# Altium schematic symbol library MX1508.SchLib: 1 symbol
Pins are listed as number, name and electrical type; pins without a type are passive.

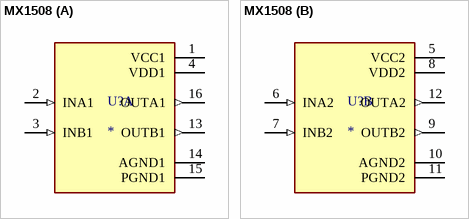
[diagram p0: symbol MX1508]

## MX1508
designator U?
MP: MX1508; MF: Sinotech Mixic Electronics Co., Ltd; Availability: Not in stock; Package: Package; Value: *; Check_prices: https://www.snapeda.com/parts/MX1508/Sinotech+Mixic+Electronics+Co.%252C+Ltd/view-part/?ref=eda; SnapEDA_Link: https://www.snapeda.com/parts/MX1508/Sinotech+Mixic+Electronics+Co.%252C+Ltd/view-part/?ref=snap; Price: None
footprint SOIC127P600X177-16N
part A pins: 1 VCC1 (power), 2 INA1 (in), 3 INB1 (in), 4 VDD1 (power), 13 OUTB1 (out), 14 AGND1 (power), 15 PGND1 (power), 16 OUTA1 (out)
part B pins: 5 VCC2 (power), 6 INA2 (in), 7 INB2 (in), 8 VDD2 (power), 9 OUTB2 (out), 10 AGND2 (power), 11 PGND2 (power), 12 OUTA2 (out)